# EAGLE library part 90136-1?06 (library con-molex-c-grid)
C-Grid III
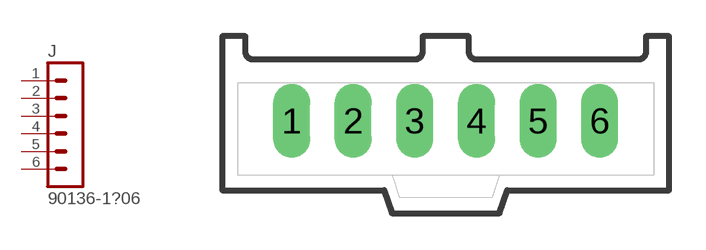
[diagram p60: symbol with the pads of 90136-1?06; footprint 90136-1?06]

Designator prefix J

## 90136-106  [90136-1?06]
1  1  pas
2  2  pas
3  3  pas
4  4  pas
5  5  pas
6  6  pas

## Footprint 90136-1?06 (pad centres in mm)
C-Grid III vertical
drill 1.016 long: 1 -6.35,0; 2 -3.81,0; 3 -1.27,0; 4 1.27,0; 5 3.81,0; 6 6.35,0